# Altium schematic symbol library CRD25DA12N-FMC.SchLib: 141 symbols (part 5 of 5)
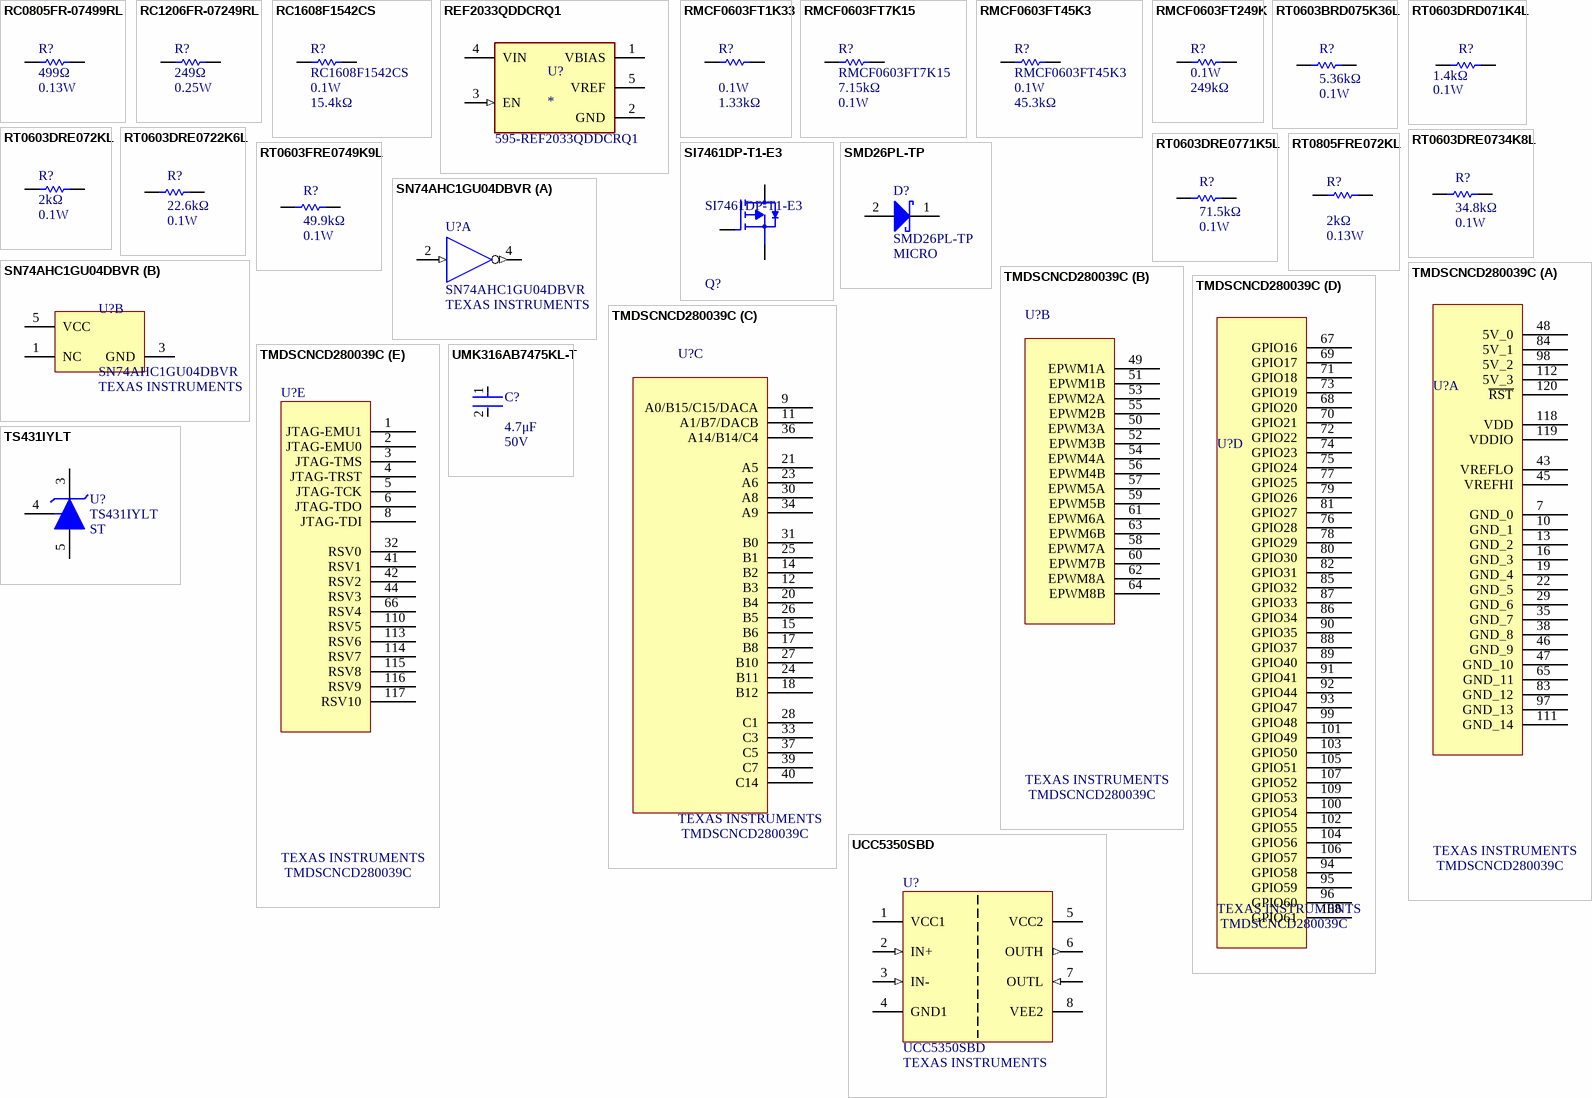
[diagram p7: symbols RC0805FR-07499RL to UMK316AB7475KL-T]

## RMCF0603FT1K33
designator R?  Power Rating: 0.1W  Resistance: 1.33kΩ  (hidden comment: *)
Res Thick Film 0603 1.33K Ohm 1% 1/10W ±100ppm/°C Molded SMD SMD Paper T/R; Manufacturer: Stackpole Electronics; Manufacturer Part Number: RMCF0603FT1K33; Max Power Dissipation: 100mW; Supplier 1: Avnet; RoHS: Yes; Category: Chip SMD Resistors; Stock 1: 225000; Pricing 1: 5000=0.00280, 10000=0.00276, 20000=0.00272, 30000=0.00268, 40000=0.00264, 50000=0.00260, 500000=0.00256 (USD); Mount: Surface Mount; Case/Package: 0603; Case Code (Metric): 1608; Case Code (Imperial): 0603; Contact Plating: Tin,Matte; Min Operating Temperature: -55°C; Max Operating Temperature: 155°C; Tolerance: 1%; Packaging: Tape and Reel; Resistor Type: Thick Film; Number of Terminations: 2; Temperature Coefficient: 100ppm/°C; Features: Automotive AEC-Q200; Series: RMCF; Length: 0.061inch; Width: 0.031inch; Height: 0.022inch; Radiation Hardening: No; Lead Free: Lead Free; RoHS Compliant: Yes; ComponentLink1URL: https://www.seielect.com/Catalog/SEI-RMCF_RMCP.pdf?src-supplier=Digi-Key; ComponentLink1Description: https://www.seielect.com/Catalog/SEI-RMCF_RMCP.pdf?src-supplier=Digi-Key; ComponentLink2URL: https://www.seielect.com/catalog/SEI-Packaging.pdf?src-supplier=Digi-Key; ComponentLink2Description: https://www.seielect.com/catalog/SEI-Packaging.pdf?src-supplier=Digi-Key; ComponentLink3URL: https://www.seielect.com/catalog/SEI-RMCF_RMCP.pdf?src-supplier=Avnet; ComponentLink3Description: https://www.seielect.com/catalog/SEI-RMCF_RMCP.pdf?src-supplier=Avnet; Supplier Part Number 1: RMCF0603FT1K33
footprint FP-MCR03-IPC_B
pins: 1, 2

## RMCF0603FT7K15
designator R?  Resistance: 7.15kΩ  Power Rating: 0.1W
Res Thick Film 0603 7.15K Ohm 1% 1/10W ±100ppm/°C Molded SMD SMD Paper T/R; Manufacturer: Stackpole Electronics; Max Power Dissipation: 100mW; Supplier 1: Avnet; Manufacturer Part Number: RMCF0603FT7K15; RoHS: Yes; Category: Chip SMD Resistors; Stock 1: 135000; Pricing 1: 5000=0.00280, 10000=0.00276, 20000=0.00272, 30000=0.00268, 40000=0.00264, 50000=0.00260, 500000=0.00256 (USD); Mount: Surface Mount; Case/Package: 0603; Case Code (Metric): 1608; Case Code (Imperial): 0603; Contact Plating: Tin,Matte; Size Code: 0603; Min Operating Temperature: -55°C; Max Operating Temperature: 155°C; Tolerance: 1%; Packaging: Tape and Reel; Resistor Type: Thick Film; Number of Terminations: 2; Temperature Coefficient: 100ppm/°C; Features: Automotive AEC-Q200; Series: RMCF; Length: 0.061inch; Width: 0.031inch; Height: 0.022inch; Radiation Hardening: No; Lead Free: Lead Free; RoHS Compliant: Yes; ComponentLink1URL: http://components.arrow.com/part/dataview/46949454S9067612N1174?src-supplier=Arrow+Electronics; ComponentLink1Description: http://components.arrow.com/part/dataview/46949454S9067612N1174?src-supplier=Arrow+Electronics; ComponentLink2URL: https://www.seielect.com/catalog/SEI-RMCF_RMCP.pdf?src-supplier=Avnet; ComponentLink2Description: https://www.seielect.com/catalog/SEI-RMCF_RMCP.pdf?src-supplier=Avnet; ComponentLink3URL: https://www.seielect.com/catalog/SEI-Packaging.pdf?src-supplier=Digi-Key; ComponentLink3Description: https://www.seielect.com/catalog/SEI-Packaging.pdf?src-supplier=Digi-Key; ComponentLink4URL: http://www.seielect.com/Catalog/SEI-RMC.pdf?src-supplier=Future+Electronics; ComponentLink4Description: http://www.seielect.com/Catalog/SEI-RMC.pdf?src-supplier=Future+Electronics; Supplier Part Number 1: RMCF0603FT7K15
footprint FP-MCR03-IPC_B
pins: 1, 2

## RMCF0603FT45K3
designator R?  Max Power Dissipation: 0.1W  Resistance: 45.3kΩ
45.3kΩ ±1% 0.1W 0603 Thick Film Chip Resistor AEC-Q200 compliant; Temperature Coefficient: 100ppm/°C; Mount: Surface Mount; Contact Plating: Tin; Tolerance: 1%; Series: RMCF; Max Operating Temperature: 155°C; RoHS Compliant: Yes; Case/Package: 0603; Features: Automotive AEC-Q200; Width: 0.031inch; Lead Free: Contains Lead; Height: 0.022inch; Radiation Hardening: No; Number of Terminations: 2; Length: 0.061inch; Min Operating Temperature: -55°C; Case Code (Imperial): 0603; Resistor Type: Thick Film; Case Code (Metric): 1608; Packaging: Tape and Reel
footprint FP-MCR03-IPC_B
pins: 1, 2

## RMCF0603FT249K
designator R?  Max Power Dissipation: 0.1W  Resistance: 249kΩ  (hidden comment: *)
Res Thick Film 0603 249K Ohm 1% 1/10W ±100ppm/°C Molded SMD SMD Paper T/R; Manufacturer: Stackpole Electronics; Manufacturer Part Number: RMCF0603FT249K; Supplier 1: Avnet; RoHS: Yes; Category: Chip SMD Resistors; Stock 1: 30000; Pricing 1: 5000=0.00280, 10000=0.00276, 20000=0.00272, 30000=0.00268, 40000=0.00264, 50000=0.00260, 500000=0.00256 (USD); Mount: Surface Mount; Case/Package: 0603; Case Code (Metric): 1608; Case Code (Imperial): 0603; Contact Plating: Tin,Matte; Min Operating Temperature: -55°C; Max Operating Temperature: 155°C; Packaging: Tape and Reel; Tolerance: 1%; Temperature Coefficient: 100ppm/°C; Series: RMCF; Resistor Type: Thick Film; Number of Terminations: 2; Features: Automotive AEC-Q200; Length: 0.061inch; Width: 0.031inch; Height: 0.022inch; Radiation Hardening: No; RoHS Compliant: Yes; Lead Free: Lead Free; ComponentLink1URL: https://www.seielect.com/catalog/SEI-Packaging.pdf?src-supplier=Digi-Key; ComponentLink1Description: https://www.seielect.com/catalog/SEI-Packaging.pdf?src-supplier=Digi-Key; ComponentLink2URL: https://www.seielect.com/Catalog/SEI-RMCF_RMCP.pdf?src-supplier=Digi-Key; ComponentLink2Description: https://www.seielect.com/Catalog/SEI-RMCF_RMCP.pdf?src-supplier=Digi-Key; ComponentLink3URL: https://www.seielect.com/catalog/SEI-RMCF_RMCP.pdf?src-supplier=Avnet; ComponentLink3Description: https://www.seielect.com/catalog/SEI-RMCF_RMCP.pdf?src-supplier=Avnet; Supplier Part Number 1: RMCF0603FT249K
footprint FP-MCR03-IPC_B
pins: 1, 2

## RT0603BRD075K36L
designator R?  value 5.36kΩ  Power Rating: 0.1W  (hidden comment: *)
Res Thin Film 0603 5.36K Ohm 0.1% 1/10W ±25ppm/°C Molded SMD Paper T/R; Manufacturer: YAGEO; Manufacturer Part Number: RT0603BRD075K36L; Max Power Dissipation: 100mW; Voltage Rating: 75V; Voltage Rating (DC): 50V; Supplier 1: Digikey; RoHS: Yes; Category: Chip SMD Resistors; Stock 1: 5772; Pricing 1: 1=0.13, 10=0.097, 50=0.0768, 100=0.0689, 500=0.05248, 1000=0.04637 (USD); Case/Package: 0603; Case Code (Metric): 1608; Case Code (Imperial): 0603; Min Operating Temperature: -55°C; Max Operating Temperature: 155°C; Resistance: 5.36kΩ; Tolerance: 0.1%; Packaging: Tape and Reel; Temperature Coefficient: 25ppm/°C; Series: RT; Number of Terminations: 2; Termination: SMD/SMT; Package Quantity: 5000; Features: Moisture Resistant; Length: 0.063inch; Width: 0.031inch; Height: 0.022inch; RoHS Compliant: Yes; Lead Free: Lead Free; ComponentLink1URL: https://datasheet.ciiva.com/12706/pyu-rt-1-to-0-05-rohs-l-4-12706234.pdf?src-supplier=Mouser; ComponentLink1Description: https://datasheet.ciiva.com/12706/pyu-rt-1-to-0-05-rohs-l-4-12706234.pdf?src-supplier=Mouser; ComponentLink2URL: https://datasheet.ciiva.com/46635/pyu-rt-1-to-0-05-rohs-l-5-46635294.pdf?src-supplier=Digikey; ComponentLink2Description: https://datasheet.ciiva.com/46635/pyu-rt-1-to-0-05-rohs-l-5-46635294.pdf?src-supplier=Digikey; ComponentLink3URL: https://datasheet.ciiva.com/2586/pyu-rt-1-to-0-05-rohs-l-4-2586015.pdf?src-supplier=Digikey; ComponentLink3Description: https://datasheet.ciiva.com/2586/pyu-rt-1-to-0-05-rohs-l-4-2586015.pdf?src-supplier=Digikey; Supplier Part Number 1: YAG1697CT-ND
footprint FP-MCR03-IPC_B
pins: 1, 2

## RT0603DRD071K4L
designator R?  value 1.4kΩ  Power: 0.1W  (hidden comment: RT0603DRD071K4L)
RES SMD 1.4K OHM 0.5% 1/10W 0603; Manufacturer: YAGEO; Manufacturer Part Number: RT0603DRD071K4L
footprint FP-MCR03-IPC_B
pins: 1, 2

## RT0603DRE072KL
designator R?  Resistance: 2kΩ  Power Rating: 0.1W  (hidden comment: *)
Res Thin Film 0603 2K Ohm 0.5% 0.1W(1/10W) ±50ppm/C Pad SMD T/R; Manufacturer: Yageo; Manufacturer Part Number: RT0603DRE072KL; Temperature Coefficient: 50ppm/°C; Voltage Rating: 75V; Max Power Dissipation: 100mW; Voltage Rating (DC): 50V; Supplier 1: Future Electronics; RoHS: Yes; Category: Chip SMD Resistors; Stock 1: 5000; Pricing 1: 5000=0.00650, 20000=0.00620, 75000=0.00590, 125000=0.00580, 250000=0.00550 (USD); Case/Package: 0603; Contact Plating: Tin,Matte; Case Code (Metric): 1608; Case Code (Imperial): 0603; Min Operating Temperature: -55°C; Max Operating Temperature: 125°C; Tolerance: 0.5%; Resistor Type: Thin Film; Packaging: Tape and Reel; Package Quantity: 5000; Number of Terminations: 2; Termination: SMD/SMT; Features: Moisture Resistant; Series: RT; Construction: Rectangular; Length: 0.063inch; Width: 0.031inch; Height: 0.022inch; Depth: 0.8mm; Radiation Hardening: No; Military Standard: Not; Lead Free: Lead Free; RoHS Compliant: Yes; ComponentLink1URL: https://datasheet.ciiva.com/2566/pyu-rt-1-to-0-05-rohs-l-5-2566187.pdf?src-supplier=Digi-Key; ComponentLink1Description: https://datasheet.ciiva.com/2566/pyu-rt-1-to-0-05-rohs-l-5-2566187.pdf?src-supplier=Digi-Key; ComponentLink2URL: https://datasheet.ciiva.com/12705/pyu-rt-1-to-0-05-rohs-l-4-12705391.pdf?src-supplier=Mouser; ComponentLink2Description: https://datasheet.ciiva.com/12705/pyu-rt-1-to-0-05-rohs-l-4-12705391.pdf?src-supplier=Mouser; Supplier Part Number 1: 6165116
footprint FP-MCR03-IPC_B
pins: 1, 2

## RT0603DRE0722K6L
designator R?  value 22.6kΩ  Max Power Dissipation: 0.1W  (hidden comment: *)
RES SMD 22.6KOHM 0.5% 1/10W 0603; Manufacturer: YAGEO; Manufacturer Part Number: RT0603DRE0722K6L; Temperature Coefficient: 50ppm/°C; Voltage Rating (DC): 50V; Supplier 1: Digikey; RoHS: Yes; Category: Chip SMD Resistors; Stock 1: 2223; Pricing 1: 1=0.1, 10=0.037, 50=0.0306, 100=0.0279, 500=0.02208, 1000=0.01979 (USD); Case/Package: 0603; Case Code (Imperial): 0603; Case Code (Metric): 1608; Min Operating Temperature: -55°C; Max Operating Temperature: 155°C; Packaging: Cut Tape; Resistance: 22.6kΩ; Tolerance: 0.5%; Series: RT; Number of Terminations: 2; Package Quantity: 5000; Features: Moisture Resistant; Length: 0.063inch; Width: 0.031inch; Height: 0.022inch; RoHS Compliant: Yes; Lead Free: Lead Free; ComponentLink1URL: https://datasheet.ciiva.com/2566/pyu-rt-1-to-0-05-rohs-l-5-2566111.pdf?src-supplier=Digikey; ComponentLink1Description: https://datasheet.ciiva.com/2566/pyu-rt-1-to-0-05-rohs-l-5-2566111.pdf?src-supplier=Digikey; Supplier Part Number 1: 311-2487-1-ND
footprint FP-MCR03-IPC_B
pins: 1, 2

## RT0603DRE0734K8L
designator R?  value 34.8kΩ  Power Rating: 0.1W  (hidden comment: *)
RES SMD 34.8KOHM 0.5% 1/10W 0603; Manufacturer: YAGEO; Manufacturer Part Number: RT0603DRE0734K8L; Temperature Coefficient: 50ppm/°C; Voltage Rating: 75V; Voltage Rating (DC): 50V; Max Power Dissipation: 100mW; Supplier 1: Digikey; RoHS: Yes; Category: Chip SMD Resistors; Stock 1: 8785; Pricing 1: 1=0.1, 10=0.037, 50=0.0306, 100=0.0279, 500=0.02208, 1000=0.01979 (USD); Case/Package: 0603; Case Code (Metric): 1608; Case Code (Imperial): 0603; Min Operating Temperature: -55°C; Max Operating Temperature: 155°C; Resistance: 34.8kΩ; Tolerance: 0.5%; Packaging: Tape and Reel; Series: RT; Termination: SMD/SMT; Number of Terminations: 2; Package Quantity: 5000; Length: 0.063inch; Width: 0.031inch; Height: 0.022inch; RoHS Compliant: Yes; Lead Free: Lead Free; ComponentLink1URL: https://datasheet.ciiva.com/2566/pyu-rt-1-to-0-05-rohs-l-5-2566218.pdf?src-supplier=Digikey; ComponentLink1Description: https://datasheet.ciiva.com/2566/pyu-rt-1-to-0-05-rohs-l-5-2566218.pdf?src-supplier=Digikey; Supplier Part Number 1: 311-2545-1-ND
footprint FP-MCR03-IPC_B
pins: 1, 2

## RT0603DRE0771K5L
designator R?  value 71.5kΩ  Max Power Dissipation: 0.1W  (hidden comment: *)
RES SMD 71.5KOHM 0.5% 1/10W 0603; Manufacturer: YAGEO; Manufacturer Part Number: RT0603DRE0771K5L; Temperature Coefficient: 50ppm/°C; Voltage Rating (DC): 50V; Supplier 1: Future Electronics; RoHS: Yes; Category: Chip SMD Resistors; Stock 1: 25000; Pricing 1: 5000=0.0103, 20000=0.0097, 75000=0.0093, 150000=0.0091, 375000=0.0086 (USD); Case/Package: 0603; Case Code (Metric): 1608; Case Code (Imperial): 0603; Min Operating Temperature: -55°C; Max Operating Temperature: 155°C; Packaging: Cut Tape; Resistance: 71.5kΩ; Tolerance: 0.5%; Series: RT; Number of Terminations: 2; Package Quantity: 5000; Features: Moisture Resistant; Length: 0.063inch; Width: 0.031inch; Height: 0.022inch; RoHS Compliant: Yes; Lead Free: Lead Free; ComponentLink1URL: https://datasheet.ciiva.com/2566/pyu-rt-1-to-0-05-rohs-l-5-2566380.pdf?src-supplier=Digikey; ComponentLink1Description: https://datasheet.ciiva.com/2566/pyu-rt-1-to-0-05-rohs-l-5-2566380.pdf?src-supplier=Digikey; Supplier Part Number 1: 3077636
footprint FP-MCR03-IPC_B
pins: 1, 2

## RT0603FRE0749K9L
designator R?  value 49.9kΩ  Power Rating: 0.1W  (hidden comment: *)
RES SMD 49.9K OHM 1% 1/10W 0603; Manufacturer: YAGEO; Manufacturer Part Number: RT0603FRE0749K9L; Temperature Coefficient: 50ppm/°C; Max Power Dissipation: 100mW; Voltage Rating: 75V; Voltage Rating (DC): 50V; Supplier 1: Future Electronics; RoHS: Yes; Category: Chip SMD Resistors; Pricing 1: 5000=0.0034, 20000=0.0032, 100000=0.003, 200000=0.0029, 625000=0.0027 (USD); Case/Package: 0603; Case Code (Imperial): 0603; Case Code (Metric): 1608; Contact Plating: Tin,Matte; Min Operating Temperature: -55°C; Max Operating Temperature: 125°C; Resistance: 49.9kΩ; Tolerance: 1%; Packaging: Tape and Reel; Series: RT; Number of Terminations: 2; Termination: SMD/SMT; Width: 800um; RoHS Compliant: Yes; Lead Free: Lead Free; ComponentLink1URL: https://datasheet.ciiva.com/12704/pyu-rt-1-to-0-05-rohs-l-4-12704159.pdf?src-supplier=Mouser; ComponentLink1Description: https://datasheet.ciiva.com/12704/pyu-rt-1-to-0-05-rohs-l-4-12704159.pdf?src-supplier=Mouser; Stock 1: 5000; Supplier Part Number 1: 3100550
footprint FP-MCR03-IPC_B
pins: 1, 2

## RT0805FRE072KL
designator R?  Resistance: 2kΩ  Max Power Dissipation: 0.13W  (hidden comment: RT0805FRE072KL)
Res Thin Film 0805 2K Ohm 1% 0.125W(1/8W) ±50ppm/C Pad SMD T/R; Manufacturer: YAGEO; Temperature Coefficient: 50ppm/°C; Power Rating: 125mW; Voltage Rating (DC): 150V; Supplier 1: Future Electronics; Manufacturer Part Number: RT0805FRE072KL; RoHS: Yes; Category: Chip SMD Resistors; Stock 1: 35000; Pricing 1: 5000=0.00650, 20000=0.00620, 75000=0.00590, 125000=0.00580, 250000=0.00550 (USD); Case/Package: 0805; Case Code (Imperial): 0805; Case Code (Metric): 2012; Contact Plating: Tin,Lead,Matte; Weight: 0.000194oz; Min Operating Temperature: -55°C; Max Operating Temperature: 125°C; Tolerance: 1%; Packaging: Tape and Reel; Series: RT; Resistor Type: Thin Film; Number of Terminations: 2; Package Quantity: 5000; Voltage Rating: 150V; Termination: SMD/SMT; Features: Moisture Resistant; Construction: Rectangular; Length: 2mm; Width: 0.049inch; Height: 0.024inch; Depth: 1.25mm; Radiation Hardening: No; RoHS Compliant: Yes; Lead Free: Lead Free; Military Standard: Not; ComponentLink1URL: https://datasheet.ciiva.com/12811/pyu-rt-1-to-0-05-rohs-l-4-12811661.pdf?src-supplier=Mouser; ComponentLink1Description: https://datasheet.ciiva.com/12811/pyu-rt-1-to-0-05-rohs-l-4-12811661.pdf?src-supplier=Mouser; ComponentLink2URL: https://datasheet.ciiva.com/2561/pyu-rt-1-to-0-05-rohs-l-5-2561141.pdf?src-supplier=Digi-Key; ComponentLink2Description: https://datasheet.ciiva.com/2561/pyu-rt-1-to-0-05-rohs-l-5-2561141.pdf?src-supplier=Digi-Key; Supplier Part Number 1: 6100065
footprint FP-MCR10-IPC_A
pins: 1, 2

## SI7461DP-T1-E3
designator Q?
MOSFET P-CH 60V 8.6A PPAK SO-8; Manufacturer: Vishay; Rthja Max: 52°C/W; Max Forward Diode Voltage: -1.2V; Depletion Mode: False; Max Junction Temp: +150°C; Pulse Drain Current: -60A; Power Dissipation: 1.9W; Transconductance: 31S; Number Of Channels: 1; Gate Charge At Vgs: 121nC @ -10V; Drain To Source Resistance: 0.0115Ω; Threshold Vgs Min: -1V; Turn Off Delay Time: 205ns; Reverse Recovery Time: 45ns; Standoff Height: 0mm; Continuous Drain Current: -8.6A; Typ Forward Diode Voltage: -0.8V; Turn On Delay Time: 20ns; Gate To Source Voltage: 20V; Drain To Source Voltage: -60V; Threshold Vgs Max: -3V; Mouser Description: MOSFET 60V 14.4A 5.4W 14.5mohm @ 10V; Manufacturer Part Number: SI7461DP-T1-E3; RoHS: TRUE; Package: S17-0173-SINGLE; Device Class L3: MOSFETs; ComponentLink2Description: Datasheet; Digikey Description: MOSFET P-CH 60V 8.6A PPAK SO-8; Category: Trans; Lead Free: Yes; Device Class L2: Transistors; Temperature Range High: +150°C; ComponentLink2URL: http://www.vishay.com/docs/72567/si7461dp.pdf; Number Of P Channels: 1; Device Class L1: Discrete Semiconductors; Octopart: https://octopart.com/si7461dp-t1-e3-vishay-42273025; Height: 1.17mm; Temperature Range Low: -55°C; Automotive: No; Temperature: -55°C to +150°C
footprint FP-S17-0173-SINGLE-MFG
pins: 1,2,3 S, 4 G, 5-6-7-8 D

## SMD26PL-TP
designator D?  Manufacturer Print: MICRO
Rectifier Diode Schottky 60V 2A 2-Pin SOD-123FL T/R; Manufacturer: MCC; Forward Voltage: 700mV; Max Reverse Current: 500uA; Max Surge Current: 50A; Max Power Dissipation: 1.68W; Supplier 1: Digi-Key; Manufacturer Part Number: SMD26PL-TP; RoHS: Yes; Category: Rectifier Diodes; Stock 1: 317348; Pricing 1: 1=0.40000, 10=0.30200, 100=0.18790, 500=0.12854, 1000=0.09888 (USD); Mount: Surface Mount; Number of Pins: 2; Min Operating Temperature: -65°C; Max Operating Temperature: 125°C; Packaging: Tape and Reel; Package Quantity: 1; Average Rectified Current: 2A; Max Repetitive Reverse Voltage (Vrrm): 60V; Max Reverse Voltage (DC): 60V; Lead Free: Lead Free; RoHS Compliant: Yes; ComponentLink1URL: https://datasheet.ciiva.com/4717/smd22pl-smd210plsod-123fl-27814-4717414.pdf?src-supplier=Mouser; ComponentLink1Description: https://datasheet.ciiva.com/4717/smd22pl-smd210plsod-123fl-27814-4717414.pdf?src-supplier=Mouser; ComponentLink2URL: https://datasheet.ciiva.com/17444/smd22pl-smd210plsod-123fl-17444944.pdf?src-supplier=Future+Electronics; ComponentLink2Description: https://datasheet.ciiva.com/17444/smd22pl-smd210plsod-123fl-17444944.pdf?src-supplier=Future+Electronics; ComponentLink3URL: https://datasheet.ciiva.com/917/smd22pl-smd210plsod-123fl-917242.pdf?src-supplier=Digi-Key; ComponentLink3Description: https://datasheet.ciiva.com/917/smd22pl-smd210plsod-123fl-917242.pdf?src-supplier=Digi-Key; ComponentLink4URL: https://datasheet.ciiva.com/917/smd22pl-smd210plsod-123fl-917243.pdf?src-supplier=Digi-Key; ComponentLink4Description: https://datasheet.ciiva.com/917/smd22pl-smd210plsod-123fl-917243.pdf?src-supplier=Digi-Key; ComponentLink5URL: https://datasheet.ciiva.com/917/smd22pl-smd210plsod-123fl-917244.pdf?src-supplier=Digi-Key; ComponentLink5Description: https://datasheet.ciiva.com/917/smd22pl-smd210plsod-123fl-917244.pdf?src-supplier=Digi-Key; Supplier Part Number 1: SMD26PL-TPMSCT-ND
footprint ONSC-SOD-123FL-2-498-01_V (SOD, 2-Leads, Body 2.7x1.65mm)
pins: 1 K, 2 A

## SN74AHC1GU04DBVR
designator U?  Manufacturer Print: TEXAS INSTRUMENTS
Single 2-V to 5.5-V inverter 5-SOT-23 -40 to 125; Number of Inputs: 1; Propagation Delay: 12ns; Output Current: 8mA; Min Supply Voltage: 2V; Max Supply Voltage: 5.5V; Quiescent Current: 1uA; High Level Output Current: -8mA; Schmitt Trigger Input: No; Supplier 1: Arrow Electronics; Manufacturer: Texas Instruments; Manufacturer Part Number: SN74AHC1GU04DBVR; RoHS: Yes; Category: Logic Gates; Stock 1: 2579; Pricing 1: 1=0.42640, 10=0.32490, 25=0.27640, 100=0.17230, 250=0.15500, 500=0.12010, 1000=0.09160 (USD); Mount: Surface Mount; Case/Package: SOT-23; Number of Pins: 5; Weight: 0.000557oz; Contact Plating: Gold; Min Operating Temperature: -40°C; Max Operating Temperature: 125°C; Package Quantity: 1; Packaging: Tape and Reel; Max Output Current: 8mA; Logic Function: Inverter; Number of Elements: 1; Number of Circuits: 1; Low Level Output Current: 8mA; Turn-On Delay Time: 12ns; Termination: SMD/SMT; Number of Gates: 1; Number of Bits: 1; Series: 74AHC; Technology: CMOS; Length: 3.05mm; Width: 1.75mm; Height: 1.3mm; Radiation Hardening: No; Reach SVHC Compliant: Yes; Lead Free: Lead Free; RoHS Compliant: Yes; ComponentLink1URL: https://datasheet.ciiva.com/1864/sn74ahc1gu04-1864496.pdf?src-supplier=Digi-Key; ComponentLink1Description: https://datasheet.ciiva.com/1864/sn74ahc1gu04-1864496.pdf?src-supplier=Digi-Key; ComponentLink2URL: https://datasheet.ciiva.com/23765/1633787-23765319.pdf?src-supplier=Newark; ComponentLink2Description: https://datasheet.ciiva.com/23765/1633787-23765319.pdf?src-supplier=Newark; ComponentLink3URL: https://datasheet.ciiva.com/15089/getdatasheetpartid-134856-15089273.pdf?src-supplier=Verical; ComponentLink3Description: https://datasheet.ciiva.com/15089/getdatasheetpartid-134856-15089273.pdf?src-supplier=Verical; ComponentLink4URL: https://datasheet.ciiva.com/46430/1834089-46430938.pdf?src-supplier=Element14; ComponentLink4Description: https://datasheet.ciiva.com/46430/1834089-46430938.pdf?src-supplier=Element14; ComponentLink5URL: https://datasheet.ciiva.com/1864/sn74ahc1gu04-1864495.pdf?src-supplier=Digi-Key; ComponentLink5Description: https://datasheet.ciiva.com/1864/sn74ahc1gu04-1864495.pdf?src-supplier=Digi-Key; ComponentLink6URL: https://datasheet.ciiva.com/1864/sn74ahc1gu04-1864494.pdf?src-supplier=Digi-Key; ComponentLink6Description: https://datasheet.ciiva.com/1864/sn74ahc1gu04-1864494.pdf?src-supplier=Digi-Key; ComponentLink7URL: https://datasheet.ciiva.com/14290/sn74ahc1gu04-14290302.pdf?src-supplier=Avnet; ComponentLink7Description: https://datasheet.ciiva.com/14290/sn74ahc1gu04-14290302.pdf?src-supplier=Avnet; Supplier Part Number 1: SN74AHC1GU04DBVR
footprint FP-DBV0005A-IPC_A
footprint FP-DBV0005A-IPC_C
footprint FP-DBV0005A-IPC_B
footprint FP-DBV0005A-MFG
part A pins: 2 A (in) "Input A", 4 Y (out) "Output Y"
part B pins: 1 NC "Ground", 3 GND (power) "Ground Pin", 5 VCC (power) "Power Pin"

## TMDSCNCD280039C
designator U?  Manufacturer: TEXAS INSTRUMENTS  Manufacturer Part Number: TMDSCNCD280039C  (hidden comment: *)
EVAL BOARD FOR TMS320F280039C; Supplier 1: Mouser; RoHS: No; Category: Embedded Processors and Controllers; Stock 1: 11; Pricing 1: 1=99.75000, 10=99.75000, 50=99.75000, 100=99.75000, 1000=99.75000, 10000=99.75000 (USD); Supplier Part Number 1: 595-TMDSCNCD280039C; Value: N/A; Package: N/A
footprint TMDSCNCD280039C
part A pins: 7 GND_0, 10 GND_1, 13 GND_2, 16 GND_3, 19 GND_4, 22 GND_5, 29 GND_6, 35 GND_7, 38 GND_8, 43 VREFLO, 45 VREFHI, 46 GND_9, 47 GND_10, 48 5V_0, 65 GND_11, 83 GND_12, 84 5V_1, 97 GND_13, 98 5V_2, 111 GND_14, 112 5V_3, 118 VDD, 119 VDDIO, 120 ~{RST}
part B pins: 49 EPWM1A, 50 EPWM3A, 51 EPWM1B, 52 EPWM3B, 53 EPWM2A, 54 EPWM4A, 55 EPWM2B, 56 EPWM4B, 57 EPWM5A, 58 EPWM7A, 59 EPWM5B, 60 EPWM7B, 61 EPWM6A, 62 EPWM8A, 63 EPWM6B, 64 EPWM8B
part C pins: 9 A0/B15/C15/DACA, 11 A1/B7/DACB, 12 B3, 14 B2, 15 B6, 17 B8, 18 B12, 20 B4, 21 A5, 23 A6, 24 B11, 25 B1, 26 B5, 27 B10, 28 C1, 30 A8, 31 B0, 33 C3, 34 A9, 36 A14/B14/C4, 37 C5, 39 C7, 40 C14
part D pins: 67 GPIO16, 68 GPIO20, 69 GPIO17, 70 GPIO21, 71 GPIO18, 72 GPIO22, 73 GPIO19, 74 GPIO23, 75 GPIO24, 76 GPIO28, 77 GPIO25, 78 GPIO29, 79 GPIO26, 80 GPIO30, 81 GPIO27, 82 GPIO31, 85 GPIO32, 86 GPIO34, 87 GPIO33, 88 GPIO37, 89 GPIO40, 90 GPIO35, 91 GPIO41, 92 GPIO44, 93 GPIO47, 94 GPIO58, 95 GPIO59, 96 GPIO60, 99 GPIO48, 100 GPIO54, 101 GPIO49, 102 GPIO55, 103 GPIO50, 104 GPIO56, 105 GPIO51, 106 GPIO57, 107 GPIO52, 108 GPIO61, 109 GPIO53
part E pins: 1 JTAG-EMU1, 2 JTAG-EMU0, 3 JTAG-TMS, 4 JTAG-TRST, 5 JTAG-TCK, 6 JTAG-TDO, 8 JTAG-TDI, 32 RSV0, 41 RSV1, 42 RSV2, 44 RSV3, 66 RSV4, 110 RSV5, 113 RSV6, 114 RSV7, 115 RSV8, 116 RSV9, 117 RSV10

## TS431IYLT
designator U?  Manufacturer Print: ST
V-Ref Adjustable 1.24V to 6V 30mA Automotive 5-Pin SOT-23 T/R; Manufacturer: STMicroelectronics; Max Input Voltage: 10V; Reference Type: Shunt,Adjustable; Tolerance: 2%; Number of Channels: 1; Temperature Coefficient: 100ppm/°C; Cathode Current: 60uA; Supplier 1: Avnet; Manufacturer Part Number: TS431IYLT; RoHS: Yes; Category: Voltage References; Stock 1: 15000; Pricing 1: 3000=0.25181, 6000=0.24861, 12000=0.24434, 18000=0.23794, 24000=0.23581 (USD); Mount: Surface Mount; Case/Package: SOT-23-5; Number of Pins: 5; Min Operating Temperature: -40°C; Max Operating Temperature: 125°C; Output Voltage: 6V; Max Output Current: 30mA; Package Quantity: 1; Packaging: Tape and Reel; Output Current: 30mA; Max Output Voltage: 6V; Output Type: Adjustable; Min Output Voltage: 1.24V; Series: Automotive, AEC-Q100; Radiation Hardening: No; RoHS Compliant: Yes; ComponentLink1URL: https://datasheet.ciiva.com/2006/cd00001336-2006390.pdf?src-supplier=Digi-Key; ComponentLink1Description: https://datasheet.ciiva.com/2006/cd00001336-2006390.pdf?src-supplier=Digi-Key; ComponentLink2URL: https://datasheet.ciiva.com/2006/cd00001336-2006391.pdf?src-supplier=Digi-Key; ComponentLink2Description: https://datasheet.ciiva.com/2006/cd00001336-2006391.pdf?src-supplier=Digi-Key; ComponentLink3URL: https://datasheet.ciiva.com/2006/cd00001336-2006392.pdf?src-supplier=Digi-Key; ComponentLink3Description: https://datasheet.ciiva.com/2006/cd00001336-2006392.pdf?src-supplier=Digi-Key; Supplier Part Number 1: TS431IYLT
footprint SOT95P280X145-5N
pins: 3, 4, 5

## UCC5350SBD
designator U?  Manufacturer Print: TEXAS INSTRUMENTS
5A/5A, 3-KVRMS SINGLE-CHANNEL IS; Class: U; Working Voltage: 990V; Number of Channels: 1; Type: DEV; RefDes: RefDes; Copyright: Copyright (C) 2021 Ultra Librarian. All rights reserved.; Mfr_Name: Texas Instruments; Manufacturer_Part_Number: UCC5350SBD; Digi-Key_Part_Number_1: 296-47508-ND; Supplier 1: Digi-Key; Manufacturer: TEXAS INSTRUMENTS; Manufacturer Part Number: UCC5350SBD; RoHS: Yes; Category: Integrated Circuits (ICs); Stock 1: 1; Pricing 1: 1=3.15000, 10=2.83100, 25=2.67600, 100=2.31920, 250=2.20024, 500=1.97428, 1000=1.68300 (USD); Min Operating Temperature: -40°C; Max Operating Temperature: 125°C; RoHS Compliant: Yes; ComponentLink1URL: http://www.ti.com/lit/ds/symlink/ucc5350sb.pdf?src-supplier=Farnell; ComponentLink1Description: http://www.ti.com/lit/ds/symlink/ucc5350sb.pdf?src-supplier=Farnell; ComponentLink2URL: http://www.ti.com/lit/ds/symlink/ucc5350.pdf?src-supplier=Digi-Key; ComponentLink2Description: http://www.ti.com/lit/ds/symlink/ucc5350.pdf?src-supplier=Digi-Key; Supplier Part Number 1: 296-47508-ND; Package: 8-SOIC; Value: N/A
footprint D0008B_HV
pins: 1 VCC1 (power), 2 IN+ (in), 3 IN- (in), 4 GND1 (power), 5 VCC2 (power), 6 OUTH (out), 7 OUTL (in), 8 VEE2 (power)

## UMK316AB7475KL-T
designator C?  Capacitance: 4.7μF  Voltage Rating: 50V  (hidden comment: UMK316AB7475KL-T)
None; Manufacturer: TAIYO YUDEN; Dielectric: X7R; Tolerance: 10%; Value: 4.7μF; Radiation Hardening: No; Case Code (Metric): 3216; Thickness: 0.071inch; Series: M; Number of Pins: 2; Depth: 1.6mm; Mount: Surface Mount; Min Operating Temperature: -55°C; Width: 1.6mm; RoHS Compliant: Yes; Voltage Rating (DC): 50V; Package Quantity: 2000; Length: 3.2mm; Packaging: Tape and Reel; Height: 1.6mm; Termination: SMD/SMT; Construction: Flat; Max Operating Temperature: 125°C; Case Code (Imperial): 1206; Package: 1206
footprint FP-1206-L_3_2_0_2-W_1_6_0-IPC_A
footprint FP-1206-L_3_2_0_2-W_1_6_0-IPC_C
footprint FP-1206-L_3_2_0_2-W_1_6_0-IPC_B
footprint FP-1206-L_3_2_0_2-W_1_6_0-MFG
pins: 1, 2